# Altium schematic symbol library tpd4e05u06dqar.SchLib: 1 symbol
Pins are listed as number, name and electrical type; pins without a type are passive.

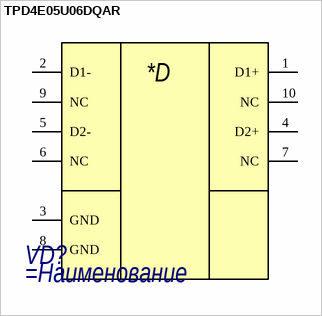
[diagram p0: symbol TPD4E05U06DQAR]

## TPD4E05U06DQAR
designator VD?
=Описание
pins: 1 D1+, 2 D1-, 3 GND, 4 D2+, 5 D2-, 6 NC, 7 NC, 8 GND, 9 NC, 10 NC
text: *D